# EAGLE library part ATTINY*-85_20PIN (library IC_Embedded)
Atmel tiny25/45/85, 8-bit AVR Microcontroller with 2/4/8K Bytes In-System Programmable Flash Datasheet <https://ww1.microchip.com/downloads/en/DeviceDoc/Atmel-2586-AVR-8-bit-Microcontroller-ATtiny25-ATtiny45-ATtiny85_Datasheet.pdf> Note:For this part User needs to add thermal via in thermal pad while designing a board.
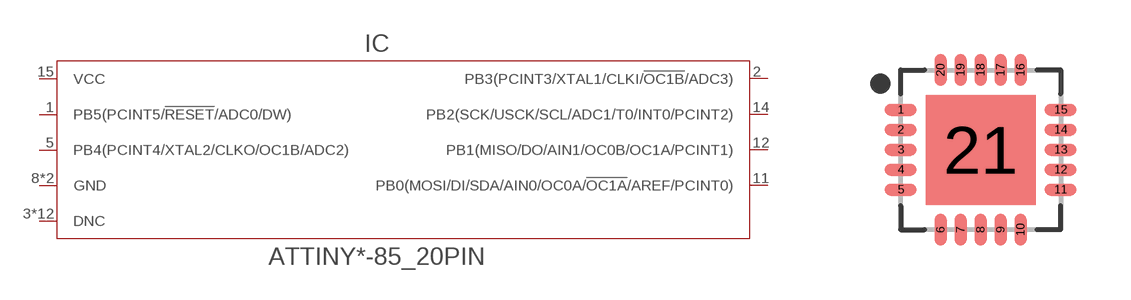
[diagram p26: symbol with the pads of QFN50P400X400X80-21T275; footprint QFN50P400X400X80-21T275]

Designator prefix IC

## ATTINY25-20MF-85_20PIN (CATEGORY: IC_Embedded; CORE: AVR; DESCRIPTION: AVR AVR® ATtiny, Functional Safety (FuSa) Microcontroller IC 8-Bit 20MHz 2KB (1K x 16) FLASH 20-QFN-EP (4x4); MANUFACTURER: Microchip Technology; MPN: ATtiny25-20MF; OPERATING_TEMP: -40°C to 85°C; PART_STATUS: Active; ROHS_COMPLIANT: COMPLIANT; SERIES: ATtiny25; SPEED: 20MHz; SUB-CATEGORY: Microcontroller; TYPE: 8 Bit Microcontroller; VALUE: ATtiny25-20MF), ATTINY25-20MFR-85_20PIN (CATEGORY: IC_Embedded; CORE: AVR; DESCRIPTION: AVR AVR® ATtiny, Functional Safety (FuSa) Microcontroller IC 8-Bit 20MHz 2KB (1K x 16) FLASH 20-QFN-EP (4x4); MANUFACTURER: Microchip Technology; MPN: ATtiny25-20MFR; OPERATING_TEMP: -40°C to 85°C; PART_STATUS: Active; ROHS_COMPLIANT: COMPLIANT; SERIES: ATtiny25; SPEED: 20MHz; SUB-CATEGORY: Microcontroller; TYPE: 8 Bit Microcontroller; VALUE: ATtiny25-20MFR), ATTINY25-20MU-85_20PIN (CATEGORY: IC_Embedded; CORE: AVR; DESCRIPTION: AVR AVR® ATtiny, Functional Safety (FuSa) Microcontroller IC 8-Bit 20MHz 2KB (1K x 16) FLASH 20-QFN-EP (4x4); MANUFACTURER: Microchip Technology; MPN: ATtiny25-20MU; OPERATING_TEMP: -40°C to 85°C; PART_STATUS: Active; ROHS_COMPLIANT: COMPLIANT; SERIES: ATtiny25; SPEED: 20MHz; SUB-CATEGORY: Microcontroller; TYPE: 8 Bit Microcontroller; VALUE: ATtiny25-20MU), ATTINY25-20MUR-85_20PIN (CATEGORY: IC_Embedded; CORE: AVR; DESCRIPTION: AVR AVR® ATtiny, Functional Safety (FuSa) Microcontroller IC 8-Bit 20MHz 2KB (1K x 16) FLASH 20-QFN-EP (4x4); MANUFACTURER: Microchip Technology; MPN: ATtiny25-20MUR; OPERATING_TEMP: -40°C to 85°C; PART_STATUS: Active; ROHS_COMPLIANT: COMPLIANT; SERIES: ATtiny25; SPEED: 20MHz; SUB-CATEGORY: Microcontroller; TYPE: 8 Bit Microcontroller; VALUE: ATtiny25-20MUR), ATTINY25V-10MF-85_20PIN (CATEGORY: IC_Embedded; CORE: AVR; DESCRIPTION: AVR series Microcontroller IC 8-Bit 20MHz 2KB (1K x 16) FLASH 20-QFN-EP (4x4); MANUFACTURER: Microchip Technology; MPN: ATtiny25-10MF; OPERATING_TEMP: -40°C to 85°C; PART_STATUS: Active; ROHS_COMPLIANT: COMPLIANT; SERIES: ATtiny25; SPEED: 10MHz; SUB-CATEGORY: Microcontroller; TYPE: 8 Bit Microcontroller; VALUE: ATtiny25-10MF), ATTINY25V-10MFR-85_20PIN (CATEGORY: IC_Embedded; CORE: AVR; DESCRIPTION: AVR AVR® ATtiny, Functional Safety (FuSa) Microcontroller IC 8-Bit 20MHz 2KB (1K x 16) FLASH 20-QFN-EP (4x4); MANUFACTURER: Microchip Technology; MPN: ATtiny25-10MFR; OPERATING_TEMP: -40°C to 85°C; PART_STATUS: Active; ROHS_COMPLIANT: COMPLIANT; SERIES: ATtiny25; SPEED: 10MHz; SUB-CATEGORY: Microcontroller; TYPE: 8 Bit Microcontroller; VALUE: ATtiny25-10MFR), ATTINY25V-10MU-85_20PIN (CATEGORY: IC_Embedded; CORE: AVR; DESCRIPTION: AVR series Microcontroller IC 8-Bit 10MHz 2KB (1K x 16) FLASH 20-QFN-EP (4x4); MANUFACTURER: Microchip Technology; MPN: ATtiny25-10MU; OPERATING_TEMP: -40°C to 85°C; PART_STATUS: Active; ROHS_COMPLIANT: COMPLIANT; SERIES: ATtiny25; SPEED: 10MHz; SUB-CATEGORY: Microcontroller; TYPE: 8 Bit Microcontroller; VALUE: ATtiny25-10MU), ATTINY25V-10MUR-85_20PIN (CATEGORY: IC_Embedded; CORE: AVR; DESCRIPTION: AVR AVR® ATtiny, Functional Safety (FuSa) Microcontroller IC 8-Bit 10MHz 2KB (1K x 16) FLASH 20-QFN-EP (4x4); MANUFACTURER: Microchip Technology; MPN: ATtiny25-10MUR; OPERATING_TEMP: -40°C to 85°C; PART_STATUS: Active; ROHS_COMPLIANT: COMPLIANT; SERIES: ATtiny25; SPEED: 10MHz; SUB-CATEGORY: Microcontroller; TYPE: 8 Bit Microcontroller; VALUE: ATtiny25-10MUR), ATTINY45-20MU-85_20PIN (CATEGORY: IC_Embedded; CORE: AVR; DESCRIPTION: AVR AVR® ATtiny, Functional Safety (FuSa) Microcontroller IC 8-Bit 20MHz 4KB (2K x 16) FLASH 20-QFN-EP (4x4); MANUFACTURER: Microchip Technology; MPN: ATtiny45-20MU; OPERATING_TEMP: -40°C to 85°C; PART_STATUS: Active; ROHS_COMPLIANT: COMPLIANT; SERIES: ATtiny45; SPEED: 20MHz; SUB-CATEGORY: Microcontroller; TYPE: 8 Bit Microcontroller; VALUE: ATtiny45-20MU), ATTINY45-20MUR-85_20PIN (CATEGORY: IC_Embedded; CORE: AVR; DESCRIPTION: AVR AVR® ATtiny, Functional Safety (FuSa) Microcontroller IC 8-Bit 20MHz 4KB (2K x 16) FLASH 20-QFN-EP (4x4); MANUFACTURER: Microchip Technology; MPN: ATtiny45-20MUR; OPERATING_TEMP: -40°C to 85°C; PART_STATUS: Active; ROHS_COMPLIANT: COMPLIANT; SERIES: ATtiny45; SPEED: 20MHz; SUB-CATEGORY: Microcontroller; TYPE: 8 Bit Microcontroller; VALUE: ATtiny45-20MUR), ATTINY45V-10MU-85_20PIN (CATEGORY: IC_Embedded; CORE: AVR; DESCRIPTION: AVR series Microcontroller IC 8-Bit 10MHz 4KB (2K x 16) FLASH 20-QFN-EP (4x4); MANUFACTURER: Microchip Technology; MPN: ATtiny45-10MU; OPERATING_TEMP: -40°C to 85°C; PART_STATUS: Active; ROHS_COMPLIANT: COMPLIANT; SERIES: ATtiny45; SPEED: 10MHz; SUB-CATEGORY: Microcontroller; TYPE: 8 Bit Microcontroller; VALUE: ATtiny45-10MU), ATTINY45V-10MUR-85_20PIN (CATEGORY: IC_Embedded; CORE: AVR; DESCRIPTION: AVR AVR® ATtiny, Functional Safety (FuSa) Microcontroller IC 8-Bit 10MHz 4KB (2K x 16) FLASH 20-QFN-EP (4x4); MANUFACTURER: Microchip Technology; MPN: ATtiny45-10MUR; OPERATING_TEMP: -40°C to 85°C; PART_STATUS: Active; ROHS_COMPLIANT: COMPLIANT; SERIES: ATtiny45; SPEED: 10MHz; SUB-CATEGORY: Microcontroller; TYPE: 8 Bit Microcontroller; VALUE: ATtiny45-10MUR), ATTINY85-10MU-85_20PIN (CATEGORY: IC_Embedded; CORE: AVR; DESCRIPTION: AVR series Microcontroller IC 8-Bit 10MHz 8KB (4K x 16) FLASH 20-QFN-EP (4x4); MANUFACTURER: Microchip Technology; MPN: ATtiny85-10MU; OPERATING_TEMP: -40°C to 85°C; PART_STATUS: Active; ROHS_COMPLIANT: COMPLIANT; SERIES: ATtiny85; SPEED: 10MHz; SUB-CATEGORY: Microcontroller; TYPE: 8 Bit Microcontroller; VALUE: ATtiny85-10MU), ATTINY85-10MUR-85_20PIN (CATEGORY: IC_Embedded; CORE: AVR; DESCRIPTION: AVR AVR® ATtiny, Functional Safety (FuSa) Microcontroller IC 8-Bit 10MHz 8KB (4K x 16) FLASH 20-QFN-EP (4x4); MANUFACTURER: Microchip Technology; MPN: ATtiny85-10MUR; OPERATING_TEMP: -40°C to 85°C; PART_STATUS: Active; ROHS_COMPLIANT: COMPLIANT; SERIES: ATtiny85; SPEED: 10MHz; SUB-CATEGORY: Microcontroller; TYPE: 8 Bit Microcontroller; VALUE: ATtiny85-10MUR), ATTINY85-20MU-85_20PIN (CATEGORY: IC_Embedded; CORE: AVR; DESCRIPTION: AVR AVR® ATtiny, Functional Safety (FuSa) Microcontroller IC 8-Bit 20MHz 8KB (4K x 16) FLASH 20-QFN-EP (4x4); MANUFACTURER: Microchip Technology; MPN: ATtiny85-20MU; OPERATING_TEMP: -40°C to 85°C; PART_STATUS: Active; ROHS_COMPLIANT: COMPLIANT; SERIES: ATtiny85; SPEED: 20MHz; SUB-CATEGORY: Microcontroller; TYPE: 8 Bit Microcontroller; VALUE: ATtiny85-20MU), ATTINY85-20MUR-85_20PIN (CATEGORY: IC_Embedded; CORE: AVR; DESCRIPTION: AVR AVR® ATtiny, Functional Safety (FuSa) Microcontroller IC 8-Bit 20MHz 8KB (4K x 16) FLASH 20-QFN-EP (4x4); MANUFACTURER: Microchip Technology; MPN: ATtiny85-20MUR; OPERATING_TEMP: -40°C to 85°C; PART_STATUS: Active; ROHS_COMPLIANT: COMPLIANT; SERIES: ATtiny85; SPEED: 20MHz; SUB-CATEGORY: Microcontroller; TYPE: 8 Bit Microcontroller; VALUE: ATtiny85-20MUR)  [QFN50P400X400X80-21T275]
1  PB5(PCINT5/!RESET!/ADC0/DW)
2  PB3(PCINT3/XTAL1/CLKI/!OC1B!/ADC3)
3  DNC  nc
4  DNC  nc
5  PB4(PCINT4/XTAL2/CLKO/OC1B/ADC2)
6  DNC  nc
7  DNC  nc
8  GND  pwr
9  DNC  nc
10  DNC  nc
11  PB0(MOSI/DI/SDA/AIN0/OC0A/!OC1A!/AREF/PCINT0)
12  PB1(MISO/DO/AIN1/OC0B/OC1A/PCINT1)
13  DNC  nc
14  PB2(SCK/USCK/SCL/ADC1/T0/INT0/PCINT2)
15  VCC  pwr
16  DNC  nc
17  DNC  nc
18  DNC  nc
19  DNC  nc
20  DNC  nc
21  GND  pwr

## Footprint QFN50P400X400X80-21T275 (pad centres in mm)
20-QFN, 0.50 mm pitch, 4.00 X 4.00 X 0.80 mm body, 2.75 X 2.75 mm thermal pad 20-pin QFN package with 0.50 mm pitch with body size 4.00 X 4.00 X 0.80 mm and thermal pad size 2.75 X 2.75 mm
smd 0.8 x 0.3: 1 -2,1; 2 -2,0.5; 3 -2,0; 4 -2,-0.5; 5 -2,-1; 11 2,-1; 12 2,-0.5; 13 2,0; 14 2,0.5; 15 2,1
smd 0.3 x 0.8: 6 -1,-2; 7 -0.5,-2; 8 0,-2; 9 0.5,-2; 10 1,-2; 16 1,2; 17 0.5,2; 18 0,2; 19 -0.5,2; 20 -1,2
smd 2.75 x 2.75: 21 0,0